# Altium integrated library Renesas Transistor.IntLib: 835 symbols (part 15 of 18)
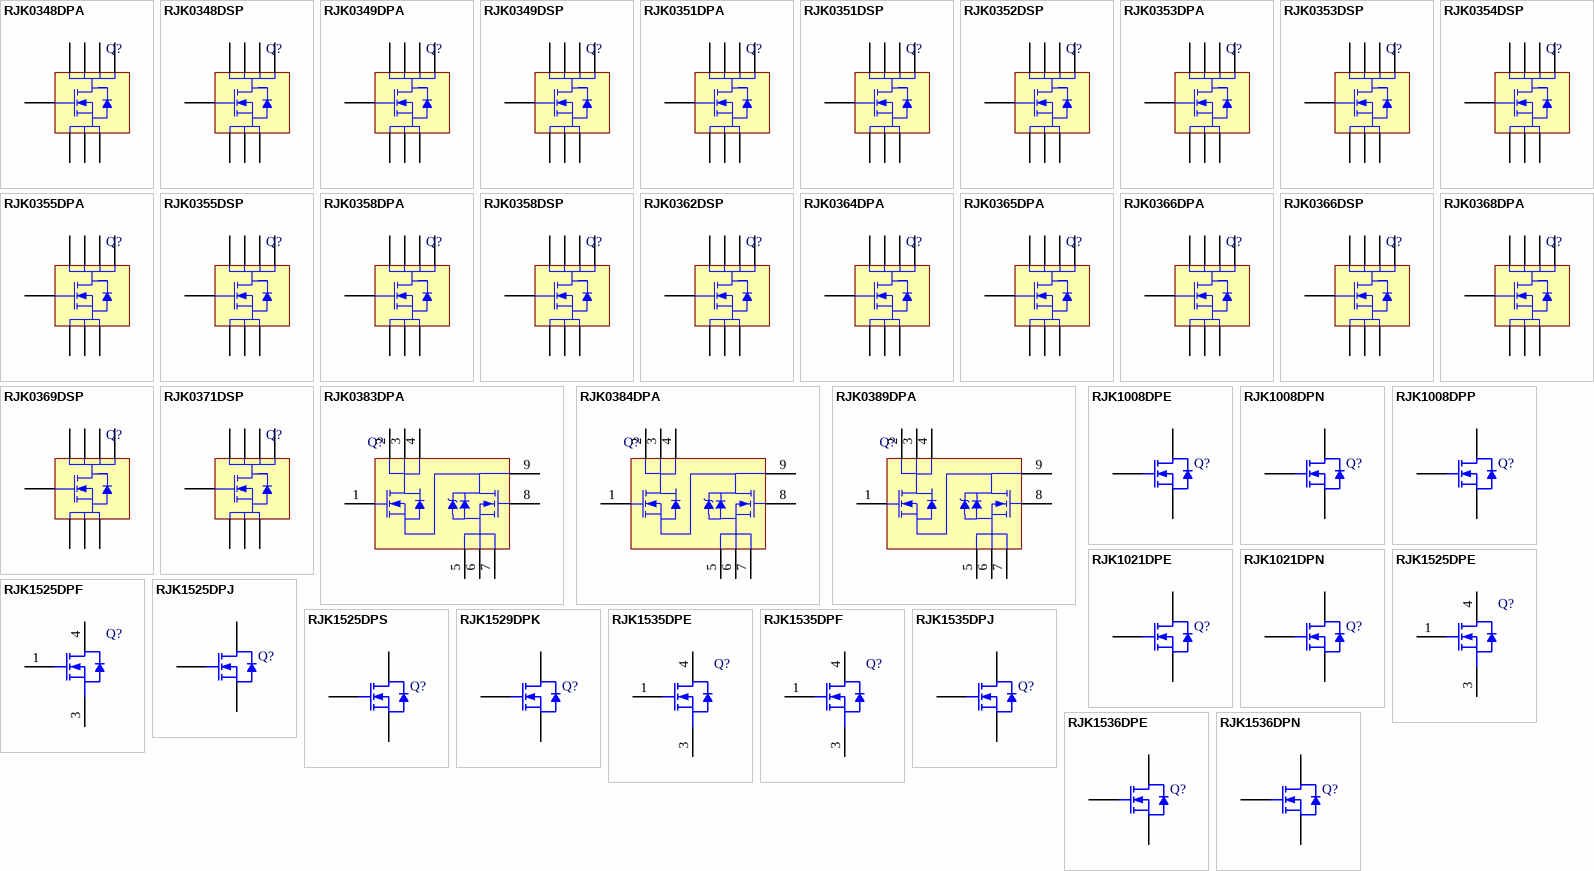
[diagram p36: symbols RJK0348DPA to RJK1536DPN]

## RJK0353DPA
designator Q?
Silicon N-Channel Power MOSFET, Power Switching; Published: 30-Oct-2009; DatasheetVersion: Rev.3.00, Apr-2008; PackageVersion: Feb-2006; PackageReference: PWSN0008DA-A; Publisher: Altium Limited; PackageDescription: 8-Pin Plastic Very-very Thin Small Outline No Lead Package, 5.1 x 6.1 x 0.8mm Body, 1.27mm Pitch (WPAK); ComponentLink1Description: Manufacturer Link; ComponentLink1URL: http://sg.renesas.com/fmwk.jsp?cnt=discrete_category_landing.jsp&fp=/products/discrete/; ComponentLink2Description: Datasheet; ComponentLink2URL: http://documentation.renesas.com/eng/products/transistor/rej03g1647_rjk0353dpads.pdf; ComponentLink3Description: Packaging Specification; ComponentLink3URL: http://sg.renesas.com/media/products/common_info/package/pdf/transistor/code/pwsn0008da_a.pdf
footprint PWSN0008DA-A (SON, 8-Leads, Body 5.1x6.1mm, Pitch 1.27mm, Heatsink)
pins: 1 S, 2 S, 3 S, 4 G, 5 D, 6 D, 7 D, 8 D

## RJK0353DSP
designator Q?
Silicon N-Channel Power MOSFET, Power Switching; Published: 30-Oct-2009; DatasheetVersion: Rev.4.01, Apr-2008; PackageVersion: Sep-2005; PackageReference: PRSP0008DD-D; Publisher: Altium Limited; PackageDescription: 8-Pin Plastic Small Outline Integrated Circuit 1.27 mm Pitch (SOP-8); Code_IPC: SOIC127P600-8; ComponentLink1Description: Manufacturer Link; ComponentLink1URL: http://sg.renesas.com/fmwk.jsp?cnt=discrete_category_landing.jsp&fp=/products/discrete/; ComponentLink2Description: Datasheet; ComponentLink2URL: http://documentation.renesas.com/eng/products/transistor/rej03g1648_rjk0353dspds.pdf; ComponentLink3Description: Packaging Specification; ComponentLink3URL: http://sg.renesas.com/media/products/common_info/package/pdf/transistor/code/prsp0008dd_d.pdf
footprint PRSP0008DD-D_N (SOIC, 8-Leads, Body 4.9x3.95mm, Pitch 1.27mm, IPC Medium Density)
footprint PRSP0008DD-D_L (SOIC, 8-Leads, Body 4.9x3.95mm, Pitch 1.27mm, IPC High Density)
footprint PRSP0008DD-D_M (SOIC, 8-Leads, Body 4.9x3.95mm, Pitch 1.27mm, IPC Low Density)
pins: 1 S, 2 S, 3 S, 4 G, 5 D, 6 D, 7 D, 8 D

## RJK0354DSP
designator Q?
Silicon N-Channel Power MOSFET, Power Switching; Published: 30-Oct-2009; DatasheetVersion: Rev.1.01, Apr-2008; PackageVersion: Sep-2005; PackageReference: PRSP0008DD-D; Publisher: Altium Limited; PackageDescription: 8-Pin Plastic Small Outline Integrated Circuit 1.27 mm Pitch (SOP-8); Code_IPC: SOIC127P600-8; ComponentLink1Description: Manufacturer Link; ComponentLink1URL: http://sg.renesas.com/fmwk.jsp?cnt=discrete_category_landing.jsp&fp=/products/discrete/; ComponentLink2Description: Datasheet; ComponentLink2URL: http://documentation.renesas.com/eng/products/transistor/rej03g1661_rjk0354dspds.pdf; ComponentLink3Description: Packaging Specification; ComponentLink3URL: http://sg.renesas.com/media/products/common_info/package/pdf/transistor/code/prsp0008dd_d.pdf
footprint PRSP0008DD-D_N (SOIC, 8-Leads, Body 4.9x3.95mm, Pitch 1.27mm, IPC Medium Density)
footprint PRSP0008DD-D_L (SOIC, 8-Leads, Body 4.9x3.95mm, Pitch 1.27mm, IPC High Density)
footprint PRSP0008DD-D_M (SOIC, 8-Leads, Body 4.9x3.95mm, Pitch 1.27mm, IPC Low Density)
pins: 1 S, 2 S, 3 S, 4 G, 5 D, 6 D, 7 D, 8 D

## RJK0355DPA
designator Q?
Silicon N-Channel Power MOSFET, Power Switching; Published: 30-Oct-2009; DatasheetVersion: Rev.5.00, Aug-2008; PackageVersion: Feb-2006; PackageReference: PWSN0008DA-A; Publisher: Altium Limited; PackageDescription: 8-Pin Plastic Very-very Thin Small Outline No Lead Package, 5.1 x 6.1 x 0.8mm Body, 1.27mm Pitch (WPAK); ComponentLink1Description: Manufacturer Link; ComponentLink1URL: http://sg.renesas.com/fmwk.jsp?cnt=discrete_category_landing.jsp&fp=/products/discrete/; ComponentLink2Description: Datasheet; ComponentLink2URL: http://documentation.renesas.com/eng/products/transistor/rej03g1649_rjk0355dpads.pdf; ComponentLink3Description: Packaging Specification; ComponentLink3URL: http://sg.renesas.com/media/products/common_info/package/pdf/transistor/code/pwsn0008da_a.pdf
footprint PWSN0008DA-A (SON, 8-Leads, Body 5.1x6.1mm, Pitch 1.27mm, Heatsink)
pins: 1 S, 2 S, 3 S, 4 G, 5 D, 6 D, 7 D, 8 D

## RJK0355DSP
designator Q?
Silicon N-Channel Power MOSFET, Power Switching; Published: 30-Oct-2009; DatasheetVersion: Rev.3.01, Apr-2008; PackageVersion: Sep-2005; PackageReference: PRSP0008DD-D; Publisher: Altium Limited; PackageDescription: 8-Pin Plastic Small Outline Integrated Circuit 1.27 mm Pitch (SOP-8); Code_IPC: SOIC127P600-8; ComponentLink1Description: Manufacturer Link; ComponentLink1URL: http://sg.renesas.com/fmwk.jsp?cnt=discrete_category_landing.jsp&fp=/products/discrete/; ComponentLink2Description: Datasheet; ComponentLink2URL: http://documentation.renesas.com/eng/products/transistor/rej03g1650_rjk0355dspds.pdf; ComponentLink3Description: Packaging Specification; ComponentLink3URL: http://sg.renesas.com/media/products/common_info/package/pdf/transistor/code/prsp0008dd_d.pdf
footprint PRSP0008DD-D_N (SOIC, 8-Leads, Body 4.9x3.95mm, Pitch 1.27mm, IPC Medium Density)
footprint PRSP0008DD-D_L (SOIC, 8-Leads, Body 4.9x3.95mm, Pitch 1.27mm, IPC High Density)
footprint PRSP0008DD-D_M (SOIC, 8-Leads, Body 4.9x3.95mm, Pitch 1.27mm, IPC Low Density)
pins: 1 S, 2 S, 3 S, 4 G, 5 D, 6 D, 7 D, 8 D

## RJK0358DPA
designator Q?
Silicon N-Channel Power MOSFET, Power Switching; Published: 30-Oct-2009; DatasheetVersion: Rev.4.00, Apr-2008; PackageVersion: Feb-2006; PackageReference: PWSN0008DA-A; Publisher: Altium Limited; PackageDescription: 8-Pin Plastic Very-very Thin Small Outline No Lead Package, 5.1 x 6.1 x 0.8mm Body, 1.27mm Pitch (WPAK); ComponentLink1Description: Manufacturer Link; ComponentLink1URL: http://sg.renesas.com/fmwk.jsp?cnt=discrete_category_landing.jsp&fp=/products/discrete/; ComponentLink2Description: Datasheet; ComponentLink2URL: http://documentation.renesas.com/eng/products/transistor/rej03g1651_rjk0358dpads.pdf; ComponentLink3Description: Packaging Specification; ComponentLink3URL: http://sg.renesas.com/media/products/common_info/package/pdf/transistor/code/pwsn0008da_a.pdf
footprint PWSN0008DA-A (SON, 8-Leads, Body 5.1x6.1mm, Pitch 1.27mm, Heatsink)
pins: 1 S, 2 S, 3 S, 4 G, 5 D, 6 D, 7 D, 8 D

## RJK0358DSP
designator Q?
Silicon N-Channel Power MOSFET, Power Switching; Published: 30-Oct-2009; DatasheetVersion: Rev.5.01, Apr-2008; PackageVersion: Sep-2005; PackageReference: PRSP0008DD-A; Publisher: Altium Limited; PackageDescription: 8-Pin Plastic Small Outline Integrated Circuit 1.27 mm Pitch (SOP-8); Code_IPC: SOIC127P600-8; ComponentLink1Description: Manufacturer Link; ComponentLink1URL: http://sg.renesas.com/fmwk.jsp?cnt=discrete_category_landing.jsp&fp=/products/discrete/; ComponentLink2Description: Datasheet; ComponentLink2URL: http://documentation.renesas.com/eng/products/transistor/rej03g1652_rjk0358dspds.pdf; ComponentLink3Description: Packaging Specification; ComponentLink3URL: http://sg.renesas.com/media/products/common_info/package/pdf/transistor/code/prsp0008dd_a.pdf
footprint PRSP0008DD-A_N (SOIC, 8-Leads, Body 4.9x3.95mm, Pitch 1.27mm, IPC Medium Density)
footprint PRSP0008DD-A_L (SOIC, 8-Leads, Body 4.9x3.95mm, Pitch 1.27mm, IPC High Density)
footprint PRSP0008DD-A_M (SOIC, 8-Leads, Body 4.9x3.95mm, Pitch 1.27mm, IPC Low Density)
pins: 1 S, 2 S, 3 S, 4 G, 5 D, 6 D, 7 D, 8 D

## RJK0362DSP
designator Q?
Silicon N-Channel Power MOSFET, Power Switching; Published: 30-Oct-2009; DatasheetVersion: Rev.5.01, Apr-2008; PackageVersion: Sep-2005; PackageReference: PRSP0008DD-A; Publisher: Altium Limited; PackageDescription: 8-Pin Plastic Small Outline Integrated Circuit 1.27 mm Pitch (SOP-8); Code_IPC: SOIC127P600-8; ComponentLink1Description: Manufacturer Link; ComponentLink1URL: http://sg.renesas.com/fmwk.jsp?cnt=discrete_category_landing.jsp&fp=/products/discrete/; ComponentLink2Description: Datasheet; ComponentLink2URL: http://documentation.renesas.com/eng/products/transistor/rej03g1653_rjk0362dspds.pdf; ComponentLink3Description: Packaging Specification; ComponentLink3URL: http://sg.renesas.com/media/products/common_info/package/pdf/transistor/code/prsp0008dd_a.pdf
footprint PRSP0008DD-A_N (SOIC, 8-Leads, Body 4.9x3.95mm, Pitch 1.27mm, IPC Medium Density)
footprint PRSP0008DD-A_L (SOIC, 8-Leads, Body 4.9x3.95mm, Pitch 1.27mm, IPC High Density)
footprint PRSP0008DD-A_M (SOIC, 8-Leads, Body 4.9x3.95mm, Pitch 1.27mm, IPC Low Density)
pins: 1 S, 2 S, 3 S, 4 G, 5 D, 6 D, 7 D, 8 D

## RJK0364DPA
designator Q?
Silicon N-Channel Power MOSFET, Power Switching; Published: 30-Oct-2009; DatasheetVersion: Rev.3.00, Aug-2008; PackageVersion: Feb-2006; PackageReference: PWSN0008DA-A; Publisher: Altium Limited; PackageDescription: 8-Pin Plastic Very-very Thin Small Outline No Lead Package, 5.1 x 6.1 x 0.8mm Body, 1.27mm Pitch (WPAK); ComponentLink1Description: Manufacturer Link; ComponentLink1URL: http://sg.renesas.com/fmwk.jsp?cnt=discrete_category_landing.jsp&fp=/products/discrete/; ComponentLink2Description: Datasheet; ComponentLink2URL: http://documentation.renesas.com/eng/products/transistor/rej03g1654_rjk0364dpads.pdf; ComponentLink3Description: Packaging Specification; ComponentLink3URL: http://sg.renesas.com/media/products/common_info/package/pdf/transistor/code/pwsn0008da_a.pdf
footprint PWSN0008DA-A (SON, 8-Leads, Body 5.1x6.1mm, Pitch 1.27mm, Heatsink)
pins: 1 S, 2 S, 3 S, 4 G, 5 D, 6 D, 7 D, 8 D

## RJK0365DPA
designator Q?
Silicon N-Channel Power MOSFET, Power Switching; Published: 30-Oct-2009; DatasheetVersion: Rev.3.00, Aug-2008; PackageVersion: Feb-2006; PackageReference: PWSN0008DA-A; Publisher: Altium Limited; PackageDescription: 8-Pin Plastic Very-very Thin Small Outline No Lead Package, 5.1 x 6.1 x 0.8mm Body, 1.27mm Pitch (WPAK); ComponentLink1Description: Manufacturer Link; ComponentLink1URL: http://sg.renesas.com/fmwk.jsp?cnt=discrete_category_landing.jsp&fp=/products/discrete/; ComponentLink2Description: Datasheet; ComponentLink2URL: http://documentation.renesas.com/eng/products/transistor/rej03g1655_rjk0365dpads.pdf; ComponentLink3Description: Packaging Specification; ComponentLink3URL: http://sg.renesas.com/media/products/common_info/package/pdf/transistor/code/pwsn0008da_a.pdf
footprint PWSN0008DA-A (SON, 8-Leads, Body 5.1x6.1mm, Pitch 1.27mm, Heatsink)
pins: 1 S, 2 S, 3 S, 4 G, 5 D, 6 D, 7 D, 8 D

## RJK0366DPA
designator Q?
Silicon N-Channel Power MOSFET, Power Switching; Published: 30-Oct-2009; DatasheetVersion: Rev.6.00, Aug-2008; PackageVersion: Feb-2006; PackageReference: PWSN0008DA-A; Publisher: Altium Limited; PackageDescription: 8-Pin Plastic Very-very Thin Small Outline No Lead Package, 5.1 x 6.1 x 0.8mm Body, 1.27mm Pitch (WPAK); ComponentLink1Description: Manufacturer Link; ComponentLink1URL: http://sg.renesas.com/fmwk.jsp?cnt=discrete_category_landing.jsp&fp=/products/discrete/; ComponentLink2Description: Datasheet; ComponentLink2URL: http://documentation.renesas.com/eng/products/transistor/rej03g1656_rjk0366dpads.pdf; ComponentLink3Description: Packaging Specification; ComponentLink3URL: http://sg.renesas.com/media/products/common_info/package/pdf/transistor/code/pwsn0008da_a.pdf
footprint PWSN0008DA-A (SON, 8-Leads, Body 5.1x6.1mm, Pitch 1.27mm, Heatsink)
pins: 1 S, 2 S, 3 S, 4 G, 5 D, 6 D, 7 D, 8 D

## RJK0366DSP
designator Q?
Silicon N-Channel Power MOSFET, Power Switching; Published: 30-Oct-2009; DatasheetVersion: Rev.3.01, Apr-2008; PackageVersion: Sep-2005; PackageReference: PRSP0008DD-D; Publisher: Altium Limited; PackageDescription: 8-Pin Plastic Small Outline Integrated Circuit 1.27 mm Pitch (SOP-8); Code_IPC: SOIC127P600-8; ComponentLink1Description: Manufacturer Link; ComponentLink1URL: http://sg.renesas.com/fmwk.jsp?cnt=discrete_category_landing.jsp&fp=/products/discrete/; ComponentLink2Description: Datasheet; ComponentLink2URL: http://documentation.renesas.com/eng/products/transistor/rej03g1657_rjk0366dspds.pdf; ComponentLink3Description: Packaging Specification; ComponentLink3URL: http://sg.renesas.com/media/products/common_info/package/pdf/transistor/code/prsp0008dd_d.pdf
footprint PRSP0008DD-D_N (SOIC, 8-Leads, Body 4.9x3.95mm, Pitch 1.27mm, IPC Medium Density)
footprint PRSP0008DD-D_L (SOIC, 8-Leads, Body 4.9x3.95mm, Pitch 1.27mm, IPC High Density)
footprint PRSP0008DD-D_M (SOIC, 8-Leads, Body 4.9x3.95mm, Pitch 1.27mm, IPC Low Density)
pins: 1 S, 2 S, 3 S, 4 G, 5 D, 6 D, 7 D, 8 D

## RJK0368DPA
designator Q?
Silicon N-Channel Power MOSFET, Power Switching; Published: 30-Oct-2009; DatasheetVersion: Rev.4.00, Aug-2008; PackageVersion: Feb-2006; PackageReference: PWSN0008DA-A; Publisher: Altium Limited; PackageDescription: 8-Pin Plastic Very-very Thin Small Outline No Lead Package, 5.1 x 6.1 x 0.8mm Body, 1.27mm Pitch (WPAK); ComponentLink1Description: Manufacturer Link; ComponentLink1URL: http://sg.renesas.com/fmwk.jsp?cnt=discrete_category_landing.jsp&fp=/products/discrete/; ComponentLink2Description: Datasheet; ComponentLink2URL: http://documentation.renesas.com/eng/products/transistor/rej03g1658_rjk0368dpads.pdf; ComponentLink3Description: Packaging Specification; ComponentLink3URL: http://sg.renesas.com/media/products/common_info/package/pdf/transistor/code/pwsn0008da_a.pdf
footprint PWSN0008DA-A (SON, 8-Leads, Body 5.1x6.1mm, Pitch 1.27mm, Heatsink)
pins: 1 S, 2 S, 3 S, 4 G, 5 D, 6 D, 7 D, 8 D

## RJK0369DSP
designator Q?
Silicon N-Channel Power MOSFET, Power Switching; Published: 30-Oct-2009; DatasheetVersion: Rev.2.01, Apr-2008; PackageVersion: Sep-2005; PackageReference: PRSP0008DD-D; Publisher: Altium Limited; PackageDescription: 8-Pin Plastic Small Outline Integrated Circuit 1.27 mm Pitch (SOP-8); Code_IPC: SOIC127P600-8; ComponentLink1Description: Manufacturer Link; ComponentLink1URL: http://sg.renesas.com/fmwk.jsp?cnt=discrete_category_landing.jsp&fp=/products/discrete/; ComponentLink2Description: Datasheet; ComponentLink2URL: http://documentation.renesas.com/eng/products/transistor/rej03g1662_rjk0369dspds.pdf; ComponentLink3Description: Packaging Specification; ComponentLink3URL: http://sg.renesas.com/media/products/common_info/package/pdf/transistor/code/prsp0008dd_d.pdf
footprint PRSP0008DD-D_N (SOIC, 8-Leads, Body 4.9x3.95mm, Pitch 1.27mm, IPC Medium Density)
footprint PRSP0008DD-D_L (SOIC, 8-Leads, Body 4.9x3.95mm, Pitch 1.27mm, IPC High Density)
footprint PRSP0008DD-D_M (SOIC, 8-Leads, Body 4.9x3.95mm, Pitch 1.27mm, IPC Low Density)
pins: 1 S, 2 S, 3 S, 4 G, 5 D, 6 D, 7 D, 8 D

## RJK0371DSP
designator Q?
Silicon N-Channel Power MOSFET, Power Switching; Published: 30-Oct-2009; DatasheetVersion: Rev.2.01, Apr-2008; PackageVersion: Sep-2005; PackageReference: PRSP0008DD-A; Publisher: Altium Limited; PackageDescription: 8-Pin Plastic Small Outline Integrated Circuit 1.27 mm Pitch (SOP-8); Code_IPC: SOIC127P600-8; ComponentLink1Description: Manufacturer Link; ComponentLink1URL: http://sg.renesas.com/fmwk.jsp?cnt=discrete_category_landing.jsp&fp=/products/discrete/; ComponentLink2Description: Datasheet; ComponentLink2URL: http://documentation.renesas.com/eng/products/transistor/rej03g1663_rjk0371dspds.pdf; ComponentLink3Description: Packaging Specification; ComponentLink3URL: http://sg.renesas.com/media/products/common_info/package/pdf/transistor/code/prsp0008dd_a.pdf
footprint PRSP0008DD-A_N (SOIC, 8-Leads, Body 4.9x3.95mm, Pitch 1.27mm, IPC Medium Density)
footprint PRSP0008DD-A_L (SOIC, 8-Leads, Body 4.9x3.95mm, Pitch 1.27mm, IPC High Density)
footprint PRSP0008DD-A_M (SOIC, 8-Leads, Body 4.9x3.95mm, Pitch 1.27mm, IPC Low Density)
pins: 1 S, 2 S, 3 S, 4 G, 5 D, 6 D, 7 D, 8 D

## RJK0383DPA
designator Q?
Silicon N-Channel Power MOSFET with Schottky Barrier Diode, High Speed Power Switching; Published: 30-Oct-2009; DatasheetVersion: Rev.3.00, Dec-2008; PackageVersion: 2008; PackageReference: PWSN0008DD-A; Publisher: Altium Limited; PackageDescription: 8-Pin Plastic Very-very Thin Small Outline No Lead Package, 5.1 x 6.1 x 0.8mm Body, 1.27mm Pitch (WPAK-D2); ComponentLink1Description: Manufacturer Link; ComponentLink1URL: http://sg.renesas.com/fmwk.jsp?cnt=discrete_category_landing.jsp&fp=/products/discrete/; ComponentLink2Description: Datasheet; ComponentLink2URL: http://documentation.renesas.com/eng/products/transistor/rej03g1723_rjk0383dpads.pdf; ComponentLink3Description: Packaging Specification; ComponentLink3URL: http://sg.renesas.com/media/products/common_info/package/pdf/transistor/code/pwsn0008dd_a.pdf
footprint PWSN0008DD-A (SON, 8-Leads, Body 5.1x6.1mm, Pitch 1.27mm, Heatsink)
pins: 1 G1, 2 D1, 3 D1, 4 D1, 5 S2, 6 S2, 7 S2, 8 G2, 9 S1/D2

## RJK0384DPA
designator Q?
Silicon N-Channel Power MOSFET with Schottky Barrier Diode, High Speed Power Switching; Published: 30-Oct-2009; DatasheetVersion: Rev.3.00, Dec-2008; PackageVersion: 2008; PackageReference: PWSN0008DD-A; Publisher: Altium Limited; PackageDescription: 8-Pin Plastic Very-very Thin Small Outline No Lead Package, 5.1 x 6.1 x 0.8mm Body, 1.27mm Pitch (WPAK-D2); ComponentLink1Description: Manufacturer Link; ComponentLink1URL: http://sg.renesas.com/fmwk.jsp?cnt=discrete_category_landing.jsp&fp=/products/discrete/; ComponentLink2Description: Datasheet; ComponentLink2URL: http://documentation.renesas.com/eng/products/transistor/rej03g1724_rjk0384dpads.pdf; ComponentLink3Description: Packaging Specification; ComponentLink3URL: http://sg.renesas.com/media/products/common_info/package/pdf/transistor/code/pwsn0008dd_a.pdf
footprint PWSN0008DD-A (SON, 8-Leads, Body 5.1x6.1mm, Pitch 1.27mm, Heatsink)
pins: 1 G1, 2 D1, 3 D1, 4 D1, 5 S2, 6 S2, 7 S2, 8 G2, 9 S1/D2

## RJK0389DPA
designator Q?
Silicon N-Channel Power MOSFET with Schottky Barrier Diode, High Speed Power Switching; Published: 30-Oct-2009; DatasheetVersion: Rev.3.00, Dec-2008; PackageVersion: 2008; PackageReference: PWSN0008DD-A; Publisher: Altium Limited; PackageDescription: 8-Pin Plastic Very-very Thin Small Outline No Lead Package, 5.1 x 6.1 x 0.8mm Body, 1.27mm Pitch (WPAK-D2); ComponentLink1Description: Manufacturer Link; ComponentLink1URL: http://sg.renesas.com/fmwk.jsp?cnt=discrete_category_landing.jsp&fp=/products/discrete/; ComponentLink2Description: Datasheet; ComponentLink2URL: http://documentation.renesas.com/eng/products/transistor/rej03g1722_rjk0389dpads.pdf; ComponentLink3Description: Packaging Specification; ComponentLink3URL: http://sg.renesas.com/media/products/common_info/package/pdf/transistor/code/pwsn0008dd_a.pdf
footprint PWSN0008DD-A (SON, 8-Leads, Body 5.1x6.1mm, Pitch 1.27mm, Heatsink)
pins: 1 G1, 2 D1, 3 D1, 4 D1, 5 S2, 6 S2, 7 S2, 8 G2, 9 S1/D2

## RJK1008DPE
designator Q?
N-Channel Power MOSFET, High-Speed Switching Use; Published: 30-Oct-2009; DatasheetVersion: Rev.1.00, Apr-2008; PackageVersion: Sep-2005; PackageReference: PRSS0004AE-B; Publisher: Altium Limited; PackageDescription: 3-Pin Plastic Transistor Outline Package 8.6 x 10.2 mm Body (LDPAK(S)-(1)); Code_JEITA: SC-83; ComponentLink1Description: Manufacturer Link; ComponentLink1URL: http://sg.renesas.com/fmwk.jsp?cnt=discrete_category_landing.jsp&fp=/products/discrete/; ComponentLink2Description: Datasheet; ComponentLink2URL: http://documentation.renesas.com/eng/products/transistor/rej03g1629_rjk1008dpeds.pdf; ComponentLink3Description: Packaging Specification; ComponentLink3URL: http://sg.renesas.com/media/products/common_info/package/pdf/transistor/code/prss0004ae_b.pdf
footprint PRSS0004AE-B_N (TO, 4-Leads, Body 8.6x10.2mm, Pitch 2.54mm, Lead Span 12.8mm, IPC Medium Density)
footprint PRSS0004AE-B_L (TO, 4-Leads, Body 8.6x10.2mm, Pitch 2.54mm, Lead Span 12.8mm, IPC High Density)
footprint PRSS0004AE-B_M (TO, 4-Leads, Body 8.6x10.2mm, Pitch 2.54mm, Lead Span 12.8mm, IPC Low Density)
pins: 1 G, 3 S, 4 D

## RJK1008DPN
designator Q?
N-Channel Power MOSFET, High-Speed Switching Use; Published: 30-Oct-2009; DatasheetVersion: Rev.1.00, Mar-2008; PackageVersion: Sep-2005; PackageReference: PRSS0004AC-A; Publisher: Altium Limited; PackageDescription: TO, Thru-Hole, Vertical, Heatsink Mounted; 3 In-Line Leads; Pitch 2.54 mm (TO-220AB); Code_JEITA: SC-46; ComponentLink1Description: Manufacturer Link; ComponentLink1URL: http://sg.renesas.com/fmwk.jsp?cnt=discrete_category_landing.jsp&fp=/products/discrete/; ComponentLink2Description: Datasheet; ComponentLink2URL: http://documentation.renesas.com/eng/products/transistor/rej03g1627_rjk1008dpnds.pdf; ComponentLink3Description: Packaging Specification; ComponentLink3URL: http://sg.renesas.com/media/products/common_info/package/pdf/transistor/code/prss0004ac_a.pdf
footprint PRSS0004AC-A (TO, Thru-Hole, Vertical, Heatsink Mounted; 3 In-Line Leads; Pitch 2.54 mm)
pins: 1 G, 2 D, 3 S

## RJK1008DPP
designator Q?
N-Channel Power MOSFET, High-Speed Switching Use; Published: 30-Oct-2009; DatasheetVersion: Rev.1.00, Jul-2008; PackageVersion: Sep-2005; PackageReference: PRSS0003AB-A; Publisher: Altium Limited; PackageDescription: TO, Thru-Hole, Vertical, Heatsink Mounted; 3 In-Line Leads; Pitch 2.54 mm (TO-220FN); ComponentLink1Description: Manufacturer Link; ComponentLink1URL: http://sg.renesas.com/fmwk.jsp?cnt=discrete_category_landing.jsp&fp=/products/discrete/; ComponentLink2Description: Datasheet; ComponentLink2URL: http://documentation.renesas.com/eng/products/transistor/rej03g1708_rjk1008dppds.pdf; ComponentLink3Description: Packaging Specification; ComponentLink3URL: http://sg.renesas.com/media/products/common_info/package/pdf/transistor/code/prss0003ab_a.pdf
footprint PRSS0003AB-A (TO, Thru-Hole, Vertical, Heatsink Mounted; 3 In-Line Leads; Pitch 2.54 mm)
pins: 1 G, 2 D, 3 S

## RJK1021DPE
designator Q?
N-Channel Power MOSFET, High-Speed Switching Use; Published: 30-Oct-2009; DatasheetVersion: Rev.1.00, Apr-2008; PackageVersion: Sep-2005; PackageReference: PRSS0004AE-B; Publisher: Altium Limited; PackageDescription: 3-Pin Plastic Transistor Outline Package 8.6 x 10.2 mm Body (LDPAK(S)-(1)); Code_JEITA: SC-83; ComponentLink1Description: Manufacturer Link; ComponentLink1URL: http://sg.renesas.com/fmwk.jsp?cnt=discrete_category_landing.jsp&fp=/products/discrete/; ComponentLink2Description: Datasheet; ComponentLink2URL: http://documentation.renesas.com/eng/products/transistor/rej03g1630_rjk1021dpeds.pdf; ComponentLink3Description: Packaging Specification; ComponentLink3URL: http://sg.renesas.com/media/products/common_info/package/pdf/transistor/code/prss0004ae_b.pdf
footprint PRSS0004AE-B_N (TO, 4-Leads, Body 8.6x10.2mm, Pitch 2.54mm, Lead Span 12.8mm, IPC Medium Density)
footprint PRSS0004AE-B_L (TO, 4-Leads, Body 8.6x10.2mm, Pitch 2.54mm, Lead Span 12.8mm, IPC High Density)
footprint PRSS0004AE-B_M (TO, 4-Leads, Body 8.6x10.2mm, Pitch 2.54mm, Lead Span 12.8mm, IPC Low Density)
pins: 1 G, 3 S, 4 D

## RJK1021DPN
designator Q?
N-Channel Power MOSFET, High-Speed Switching Use; Published: 30-Oct-2009; DatasheetVersion: Rev.1.00, Apr-2008; PackageVersion: Sep-2005; PackageReference: PRSS0004AC-A; Publisher: Altium Limited; PackageDescription: TO, Thru-Hole, Vertical, Heatsink Mounted; 3 In-Line Leads; Pitch 2.54 mm (TO-220AB); Code_JEITA: SC-46; ComponentLink1Description: Manufacturer Link; ComponentLink1URL: http://sg.renesas.com/fmwk.jsp?cnt=discrete_category_landing.jsp&fp=/products/discrete/; ComponentLink2Description: Datasheet; ComponentLink2URL: http://documentation.renesas.com/eng/products/transistor/rej03g1628_rjk1021dpnds.pdf; ComponentLink3Description: Packaging Specification; ComponentLink3URL: http://sg.renesas.com/media/products/common_info/package/pdf/transistor/code/prss0004ac_a.pdf
footprint PRSS0004AC-A (TO, Thru-Hole, Vertical, Heatsink Mounted; 3 In-Line Leads; Pitch 2.54 mm)
pins: 1 G, 2 D, 3 S

## RJK1525DPE
designator Q?
Silicon N-Channel MOSFET, High Speed Power Switching; Published: 30-Oct-2009; DatasheetVersion: Rev.1.00, Apr-2005; PackageVersion: Sep-2005; PackageReference: PRSS0004AE-B; Publisher: Altium Limited; PackageDescription: 3-Pin Plastic Transistor Outline Package 8.6 x 10.2 mm Body (LDPAK(S)-(1)); Code_JEITA: SC-83; ComponentLink1Description: Manufacturer Link; ComponentLink1URL: http://sg.renesas.com/fmwk.jsp?cnt=discrete_category_landing.jsp&fp=/products/discrete/; ComponentLink2Description: Datasheet; ComponentLink2URL: http://documentation.renesas.com/eng/products/transistor/rej03g0623_rjk1525dpj.pdf; ComponentLink3Description: Packaging Specification; ComponentLink3URL: http://sg.renesas.com/media/products/common_info/package/pdf/transistor/code/prss0004ae_b.pdf
footprint PRSS0004AE-B_N (TO, 4-Leads, Body 8.6x10.2mm, Pitch 2.54mm, Lead Span 12.8mm, IPC Medium Density)
footprint PRSS0004AE-B_L (TO, 4-Leads, Body 8.6x10.2mm, Pitch 2.54mm, Lead Span 12.8mm, IPC High Density)
footprint PRSS0004AE-B_M (TO, 4-Leads, Body 8.6x10.2mm, Pitch 2.54mm, Lead Span 12.8mm, IPC Low Density)
pins: 1 G, 3 S, 4 D

## RJK1525DPF
designator Q?
Silicon N-Channel MOSFET, High Speed Power Switching; Published: 30-Oct-2009; DatasheetVersion: Rev.1.00, Apr-2005; PackageVersion: Sep-2005; PackageReference: PRSS0004AE-C; Publisher: Altium Limited; PackageDescription: 3-Pin Plastic Transistor Outline Package 8.6 x 10.2 mm Body (LDPAK(S)-(2)); ComponentLink1Description: Manufacturer Link; ComponentLink1URL: http://sg.renesas.com/fmwk.jsp?cnt=discrete_category_landing.jsp&fp=/products/discrete/; ComponentLink2Description: Datasheet; ComponentLink2URL: http://documentation.renesas.com/eng/products/transistor/rej03g0623_rjk1525dpj.pdf; ComponentLink3Description: Packaging Specification; ComponentLink3URL: http://sg.renesas.com/media/products/common_info/package/pdf/transistor/code/prss0004ae_c.pdf
footprint PRSS0004AE-C_N (D2-PAK, 4-Leads, Body 8.6x10.2mm, Pitch 2.54mm, Lead Span 15mm, IPC Medium Density)
footprint PRSS0004AE-C_L (D2-PAK, 4-Leads, Body 8.6x10.2mm, Pitch 2.54mm, Lead Span 15mm, IPC High Density)
footprint PRSS0004AE-C_M (D2-PAK, 4-Leads, Body 8.6x10.2mm, Pitch 2.54mm, Lead Span 15mm, IPC Low Density)
pins: 1 G, 3 S, 4 D

## RJK1525DPJ
designator Q?
Silicon N-Channel MOSFET, High Speed Power Switching; Published: 30-Oct-2009; DatasheetVersion: Rev.1.00, Apr-2005; PackageVersion: Sep-2005; PackageReference: PRSS0004AE-A; Publisher: Altium Limited; PackageDescription: TO, Thru-Hole, Vertical, Heatsink Mounted; 3 In-Line Leads; Pitch 2.54 mm (LDPAK(L)); ComponentLink1Description: Manufacturer Link; ComponentLink1URL: http://sg.renesas.com/fmwk.jsp?cnt=discrete_category_landing.jsp&fp=/products/discrete/; ComponentLink2Description: Datasheet; ComponentLink2URL: http://documentation.renesas.com/eng/products/transistor/rej03g0623_rjk1525dpj.pdf; ComponentLink3Description: Packaging Specification; ComponentLink3URL: http://sg.renesas.com/media/products/common_info/package/pdf/transistor/code/prss0004ae_a.pdf
footprint PRSS0004AE-A (TO, Thru-Hole, Vertical, Heatsink Mounted; 3 In-Line Leads; Pitch 2.54 mm)
pins: 1 G, 2 D, 3 S

## RJK1525DPS
designator Q?
Silicon N-Channel MOSFET, High Speed Power Switching; Published: 30-Oct-2009; DatasheetVersion: Rev.2.00, Feb-2007; PackageVersion: Sep-2005; PackageReference: PRSS0003AE-A; Publisher: Altium Limited; PackageDescription: TO, Thru-Hole, Vertical, Heatsink Mounted; 3 In-Line Leads; Pitch 2.54 mm (TO-220FN); ComponentLink1Description: Manufacturer Link; ComponentLink1URL: http://sg.renesas.com/fmwk.jsp?cnt=discrete_category_landing.jsp&fp=/products/discrete/; ComponentLink2Description: Datasheet; ComponentLink2URL: http://documentation.renesas.com/eng/products/transistor/rej03g1314_rjk1525dpsds.pdf; ComponentLink3Description: Packaging Specification; ComponentLink3URL: http://sg.renesas.com/media/products/common_info/package/pdf/transistor/code/prss0003ae_a.pdf
footprint PRSS0003AE-A (TO, Thru-Hole, Vertical, Heatsink Mounted; 3 In-Line Leads; Pitch 2.54 mm)
pins: 1 G, 2 D, 3 S

## RJK1529DPK
designator Q?
Silicon N-Channel MOSFET, High Speed Power Switching; Published: 30-Oct-2009; DatasheetVersion: Rev.2.00, Jun-2005; PackageVersion: Sep-2005; PackageReference: PRSS0004ZE-A; Publisher: Altium Limited; PackageDescription: TO, Thru-Hole, Vertical, Heatsink Mounted; 3 In-Line Leads; Pitch 5.45 mm (TO-3P); Code_JEITA: SC-65; ComponentLink1Description: Manufacturer Link; ComponentLink1URL: http://sg.renesas.com/fmwk.jsp?cnt=discrete_category_landing.jsp&fp=/products/discrete/; ComponentLink2Description: Datasheet; ComponentLink2URL: http://documentation.renesas.com/eng/products/transistor/rej03g0510_rjk1529dpk.pdf; ComponentLink3Description: Packaging Specification; ComponentLink3URL: http://sg.renesas.com/media/products/common_info/package/pdf/transistor/code/prss0004ze_a.pdf
footprint PRSS0004ZE-A (TO, Thru-Hole, Vertical, Heatsink Mounted; 3 In-Line Leads; Pitch 5.45 mm)
pins: 1 G, 2 D, 3 S

## RJK1535DPE
designator Q?
Silicon N-Channel MOSFET, High Speed Power Switching; Published: 30-Oct-2009; DatasheetVersion: Rev.2.00, Jan-2005; PackageVersion: Sep-2005; PackageReference: PRSS0004AE-B; Publisher: Altium Limited; PackageDescription: 3-Pin Plastic Transistor Outline Package 8.6 x 10.2 mm Body (LDPAK(S)-(1)); Code_JEITA: SC-83; ComponentLink1Description: Manufacturer Link; ComponentLink1URL: http://sg.renesas.com/fmwk.jsp?cnt=discrete_category_landing.jsp&fp=/products/discrete/; ComponentLink2Description: Datasheet; ComponentLink2URL: http://documentation.renesas.com/eng/products/transistor/rej03g0479_rjk1535dpj.pdf; ComponentLink3Description: Packaging Specification; ComponentLink3URL: http://sg.renesas.com/media/products/common_info/package/pdf/transistor/code/prss0004ae_b.pdf
footprint PRSS0004AE-B_N (TO, 4-Leads, Body 8.6x10.2mm, Pitch 2.54mm, Lead Span 12.8mm, IPC Medium Density)
footprint PRSS0004AE-B_L (TO, 4-Leads, Body 8.6x10.2mm, Pitch 2.54mm, Lead Span 12.8mm, IPC High Density)
footprint PRSS0004AE-B_M (TO, 4-Leads, Body 8.6x10.2mm, Pitch 2.54mm, Lead Span 12.8mm, IPC Low Density)
pins: 1 G, 3 S, 4 D

## RJK1535DPF
designator Q?
Silicon N-Channel MOSFET, High Speed Power Switching; Published: 30-Oct-2009; DatasheetVersion: Rev.2.00, Jan-2005; PackageVersion: Sep-2005; PackageReference: PRSS0004AE-C; Publisher: Altium Limited; PackageDescription: 3-Pin Plastic Transistor Outline Package 8.6 x 10.2 mm Body (LDPAK(S)-(2)); ComponentLink1Description: Manufacturer Link; ComponentLink1URL: http://sg.renesas.com/fmwk.jsp?cnt=discrete_category_landing.jsp&fp=/products/discrete/; ComponentLink2Description: Datasheet; ComponentLink2URL: http://documentation.renesas.com/eng/products/transistor/rej03g0479_rjk1535dpj.pdf; ComponentLink3Description: Packaging Specification; ComponentLink3URL: http://sg.renesas.com/media/products/common_info/package/pdf/transistor/code/prss0004ae_c.pdf
footprint PRSS0004AE-C_N (D2-PAK, 4-Leads, Body 8.6x10.2mm, Pitch 2.54mm, Lead Span 15mm, IPC Medium Density)
footprint PRSS0004AE-C_L (D2-PAK, 4-Leads, Body 8.6x10.2mm, Pitch 2.54mm, Lead Span 15mm, IPC High Density)
footprint PRSS0004AE-C_M (D2-PAK, 4-Leads, Body 8.6x10.2mm, Pitch 2.54mm, Lead Span 15mm, IPC Low Density)
pins: 1 G, 3 S, 4 D

## RJK1535DPJ
designator Q?
Silicon N-Channel MOSFET, High Speed Power Switching; Published: 30-Oct-2009; DatasheetVersion: Rev.2.00, Jan-2005; PackageVersion: Sep-2005; PackageReference: PRSS0004AE-A; Publisher: Altium Limited; PackageDescription: TO, Thru-Hole, Vertical, Heatsink Mounted; 3 In-Line Leads; Pitch 2.54 mm (LDPAK(L)); ComponentLink1Description: Manufacturer Link; ComponentLink1URL: http://sg.renesas.com/fmwk.jsp?cnt=discrete_category_landing.jsp&fp=/products/discrete/; ComponentLink2Description: Datasheet; ComponentLink2URL: http://documentation.renesas.com/eng/products/transistor/rej03g0479_rjk1535dpj.pdf; ComponentLink3Description: Packaging Specification; ComponentLink3URL: http://sg.renesas.com/media/products/common_info/package/pdf/transistor/code/prss0004ae_a.pdf
footprint PRSS0004AE-A (TO, Thru-Hole, Vertical, Heatsink Mounted; 3 In-Line Leads; Pitch 2.54 mm)
pins: 1 G, 2 D, 3 S

## RJK1536DPE
designator Q?
N-Channel Power MOSFET, High-Speed Switching Use; Published: 30-Oct-2009; DatasheetVersion: Rev.2.00, Mar-2008; PackageVersion: Sep-2005; PackageReference: PRSS0004AE-B; Publisher: Altium Limited; PackageDescription: 3-Pin Plastic Transistor Outline Package 8.6 x 10.2 mm Body (LDPAK(S)-(1)); Code_JEITA: SC-83; ComponentLink1Description: Manufacturer Link; ComponentLink1URL: http://sg.renesas.com/fmwk.jsp?cnt=discrete_category_landing.jsp&fp=/products/discrete/; ComponentLink2Description: Datasheet; ComponentLink2URL: http://documentation.renesas.com/eng/products/transistor/rej03g1612_rjk1536dpeds.pdf; ComponentLink3Description: Packaging Specification; ComponentLink3URL: http://sg.renesas.com/media/products/common_info/package/pdf/transistor/code/prss0004ae_b.pdf
footprint PRSS0004AE-B_N (TO, 4-Leads, Body 8.6x10.2mm, Pitch 2.54mm, Lead Span 12.8mm, IPC Medium Density)
footprint PRSS0004AE-B_L (TO, 4-Leads, Body 8.6x10.2mm, Pitch 2.54mm, Lead Span 12.8mm, IPC High Density)
footprint PRSS0004AE-B_M (TO, 4-Leads, Body 8.6x10.2mm, Pitch 2.54mm, Lead Span 12.8mm, IPC Low Density)
pins: 1 G, 3 S, 4 D

## RJK1536DPN
designator Q?
N-Channel Power MOSFET, High-Speed Switching Use; Published: 30-Oct-2009; DatasheetVersion: Rev.2.00, Mar-2008; PackageVersion: Sep-2005; PackageReference: PRSS0004AC-A; Publisher: Altium Limited; PackageDescription: TO, Thru-Hole, Vertical, Heatsink Mounted; 3 In-Line Leads; Pitch 2.54 mm (TO-220AB); Code_JEITA: SC-46; ComponentLink1Description: Manufacturer Link; ComponentLink1URL: http://sg.renesas.com/fmwk.jsp?cnt=discrete_category_landing.jsp&fp=/products/discrete/; ComponentLink2Description: Datasheet; ComponentLink2URL: http://documentation.renesas.com/eng/products/transistor/rej03g1594_rjk1536dpnds.pdf; ComponentLink3Description: Packaging Specification; ComponentLink3URL: http://sg.renesas.com/media/products/common_info/package/pdf/transistor/code/prss0004ac_a.pdf
footprint PRSS0004AC-A (TO, Thru-Hole, Vertical, Heatsink Mounted; 3 In-Line Leads; Pitch 2.54 mm)
pins: 1 G, 2 D, 3 S

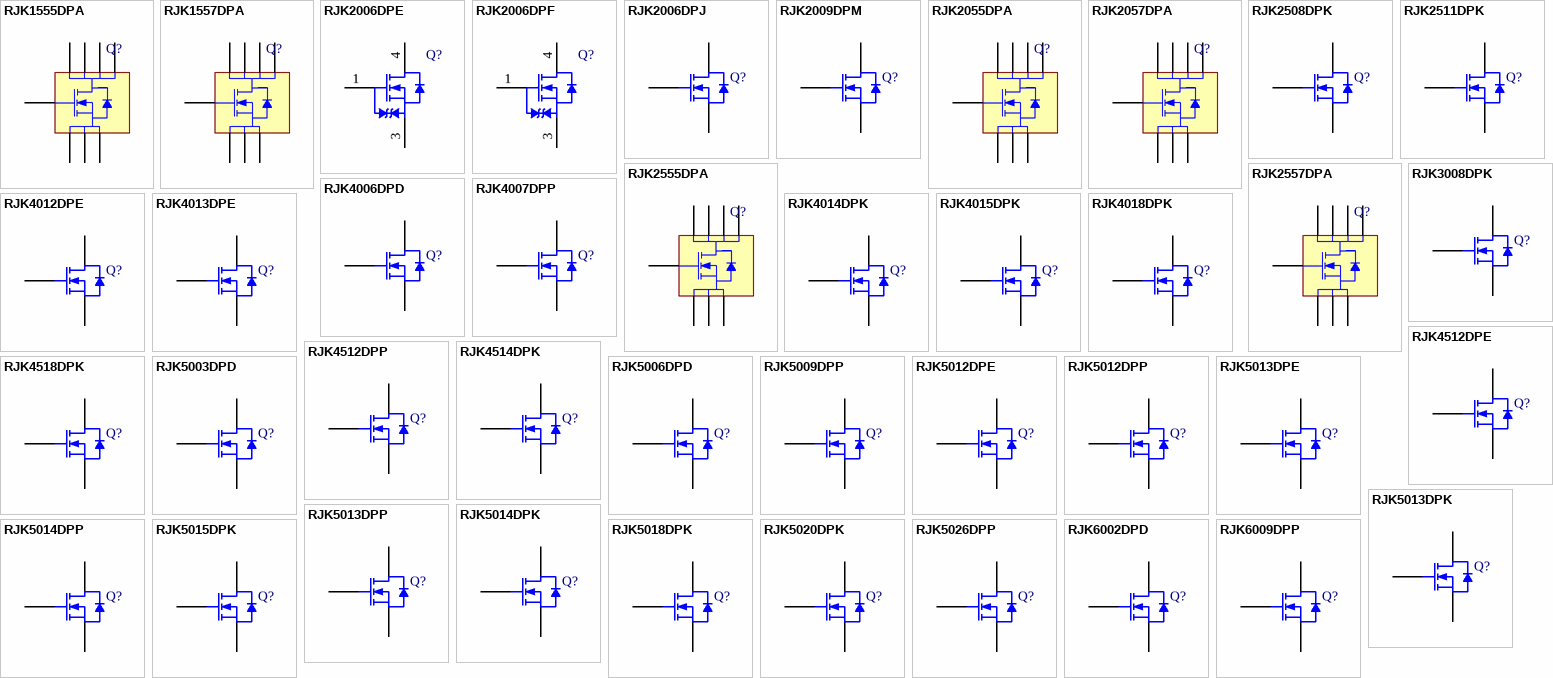
[diagram p19: symbols RJK1555DPA to RJK6009DPP]

## RJK1555DPA
designator Q?
Silicon N-Channel MOSFET, High Speed Power Switching; Published: 30-Oct-2009; DatasheetVersion: Rev.2.00, May-2009; PackageVersion: Feb-2006; PackageReference: PWSN0008DA-A; Publisher: Altium Limited; PackageDescription: 8-Pin Plastic Very-very Thin Small Outline No Lead Package, 5.1 x 6.1 x 0.8mm Body, 1.27mm Pitch (WPAK); ComponentLink1Description: Manufacturer Link; ComponentLink1URL: http://sg.renesas.com/fmwk.jsp?cnt=discrete_category_landing.jsp&fp=/products/discrete/; ComponentLink2Description: Datasheet; ComponentLink2URL: http://documentation.renesas.com/eng/products/transistor/rej03g1783_rjk1555dpads.pdf; ComponentLink3Description: Packaging Specification; ComponentLink3URL: http://sg.renesas.com/media/products/common_info/package/pdf/transistor/code/pwsn0008da_a.pdf
footprint PWSN0008DA-A (SON, 8-Leads, Body 5.1x6.1mm, Pitch 1.27mm, Heatsink)
pins: 1 S, 2 S, 3 S, 4 G, 5 D, 6 D, 7 D, 8 D

## RJK1557DPA
designator Q?
Silicon N-Channel MOSFET, High Speed Power Switching; Published: 30-Oct-2009; DatasheetVersion: Rev.1.00, Nov-2008; PackageVersion: Feb-2006; PackageReference: PWSN0008DA-A; Publisher: Altium Limited; PackageDescription: 8-Pin Plastic Very-very Thin Small Outline No Lead Package, 5.1 x 6.1 x 0.8mm Body, 1.27mm Pitch (WPAK); ComponentLink1Description: Manufacturer Link; ComponentLink1URL: http://sg.renesas.com/fmwk.jsp?cnt=discrete_category_landing.jsp&fp=/products/discrete/; ComponentLink2Description: Datasheet; ComponentLink2URL: http://documentation.renesas.com/eng/products/transistor/rej03g1759_rjk1557dpads.pdf; ComponentLink3Description: Packaging Specification; ComponentLink3URL: http://sg.renesas.com/media/products/common_info/package/pdf/transistor/code/pwsn0008da_a.pdf
footprint PWSN0008DA-A (SON, 8-Leads, Body 5.1x6.1mm, Pitch 1.27mm, Heatsink)
pins: 1 S, 2 S, 3 S, 4 G, 5 D, 6 D, 7 D, 8 D

## RJK2006DPE
designator Q?
Silicon N-Channel MOSFET, High Speed Power Switching; Published: 30-Oct-2009; DatasheetVersion: Rev.1.00, Jan-2005; PackageVersion: Sep-2005; PackageReference: PRSS0004AE-B; Publisher: Altium Limited; PackageDescription: 3-Pin Plastic Transistor Outline Package 8.6 x 10.2 mm Body (LDPAK(S)-(1)); Code_JEITA: SC-83; ComponentLink1Description: Manufacturer Link; ComponentLink1URL: http://sg.renesas.com/fmwk.jsp?cnt=discrete_category_landing.jsp&fp=/products/discrete/; ComponentLink2Description: Datasheet; ComponentLink2URL: http://documentation.renesas.com/eng/products/transistor/rej03g0512_rjk2006dpj.pdf; ComponentLink3Description: Packaging Specification; ComponentLink3URL: http://sg.renesas.com/media/products/common_info/package/pdf/transistor/code/prss0004ae_b.pdf
footprint PRSS0004AE-B_N (TO, 4-Leads, Body 8.6x10.2mm, Pitch 2.54mm, Lead Span 12.8mm, IPC Medium Density)
footprint PRSS0004AE-B_L (TO, 4-Leads, Body 8.6x10.2mm, Pitch 2.54mm, Lead Span 12.8mm, IPC High Density)
footprint PRSS0004AE-B_M (TO, 4-Leads, Body 8.6x10.2mm, Pitch 2.54mm, Lead Span 12.8mm, IPC Low Density)
pins: 1 G, 3 S, 4 D

## RJK2006DPF
designator Q?
Silicon N-Channel MOSFET, High Speed Power Switching; Published: 30-Oct-2009; DatasheetVersion: Rev.1.00, Jan-2005; PackageVersion: Sep-2005; PackageReference: PRSS0004AE-C; Publisher: Altium Limited; PackageDescription: 3-Pin Plastic Transistor Outline Package 8.6 x 10.2 mm Body (LDPAK(S)-(2)); ComponentLink1Description: Manufacturer Link; ComponentLink1URL: http://sg.renesas.com/fmwk.jsp?cnt=discrete_category_landing.jsp&fp=/products/discrete/; ComponentLink2Description: Datasheet; ComponentLink2URL: http://documentation.renesas.com/eng/products/transistor/rej03g0512_rjk2006dpj.pdf; ComponentLink3Description: Packaging Specification; ComponentLink3URL: http://sg.renesas.com/media/products/common_info/package/pdf/transistor/code/prss0004ae_c.pdf
footprint PRSS0004AE-C_N (D2-PAK, 4-Leads, Body 8.6x10.2mm, Pitch 2.54mm, Lead Span 15mm, IPC Medium Density)
footprint PRSS0004AE-C_L (D2-PAK, 4-Leads, Body 8.6x10.2mm, Pitch 2.54mm, Lead Span 15mm, IPC High Density)
footprint PRSS0004AE-C_M (D2-PAK, 4-Leads, Body 8.6x10.2mm, Pitch 2.54mm, Lead Span 15mm, IPC Low Density)
pins: 1 G, 3 S, 4 D

## RJK2006DPJ
designator Q?
Silicon N-Channel MOSFET, High Speed Power Switching; Published: 30-Oct-2009; DatasheetVersion: Rev.1.00, Jan-2005; PackageVersion: Sep-2005; PackageReference: PRSS0004AE-A; Publisher: Altium Limited; PackageDescription: TO, Thru-Hole, Vertical, Heatsink Mounted; 3 In-Line Leads; Pitch 2.54 mm (LDPAK(L)); ComponentLink1Description: Manufacturer Link; ComponentLink1URL: http://sg.renesas.com/fmwk.jsp?cnt=discrete_category_landing.jsp&fp=/products/discrete/; ComponentLink2Description: Datasheet; ComponentLink2URL: http://documentation.renesas.com/eng/products/transistor/rej03g0512_rjk2006dpj.pdf; ComponentLink3Description: Packaging Specification; ComponentLink3URL: http://sg.renesas.com/media/products/common_info/package/pdf/transistor/code/prss0004ae_a.pdf
footprint PRSS0004AE-A (TO, Thru-Hole, Vertical, Heatsink Mounted; 3 In-Line Leads; Pitch 2.54 mm)
pins: 1 G, 2 D, 3 S

## RJK2009DPM
designator Q?
Silicon N-Channel MOSFET, High Speed Power Switching; Published: 30-Oct-2009; DatasheetVersion: Rev.2.00, Aug-2005; PackageVersion: Sep-2005; PackageReference: PRSS0003ZA-A; Publisher: Altium Limited; PackageDescription: SIP with Mounting Hole; 3 Leads; Body 19.9 x 15.6 x 5.5 mm (typ); Pitch 5.45 mm (TO-3PFM); Code_JEITA: SC-93; ComponentLink1Description: Manufacturer Link; ComponentLink1URL: http://sg.renesas.com/fmwk.jsp?cnt=discrete_category_landing.jsp&fp=/products/discrete/; ComponentLink2Description: Datasheet; ComponentLink2URL: http://documentation.renesas.com/eng/products/transistor/rej03g0474_rjk2009dpm.pdf; ComponentLink3Description: Packaging Specification; ComponentLink3URL: http://sg.renesas.com/media/products/common_info/package/pdf/transistor/code/prss0003za_a.pdf
footprint PRSS0003ZA-A (SIP with Mounting Hole; 3 Leads; Body 19.9 x 15.6 x 5.5 mm (typ); Pitch 5.45 mm)
pins: 1 G, 2 D, 3 S

## RJK2055DPA
designator Q?
Silicon N-Channel MOSFET, High Speed Power Switching; Published: 30-Oct-2009; DatasheetVersion: Rev.2.00, Dec-2008; PackageVersion: Feb-2006; PackageReference: PWSN0008DA-A; Publisher: Altium Limited; PackageDescription: 8-Pin Plastic Very-very Thin Small Outline No Lead Package, 5.1 x 6.1 x 0.8mm Body, 1.27mm Pitch (WPAK); ComponentLink1Description: Manufacturer Link; ComponentLink1URL: http://sg.renesas.com/fmwk.jsp?cnt=discrete_category_landing.jsp&fp=/products/discrete/; ComponentLink2Description: Datasheet; ComponentLink2URL: http://documentation.renesas.com/eng/products/transistor/rej03g1735_rjk2055dpads.pdf; ComponentLink3Description: Packaging Specification; ComponentLink3URL: http://sg.renesas.com/media/products/common_info/package/pdf/transistor/code/pwsn0008da_a.pdf
footprint PWSN0008DA-A (SON, 8-Leads, Body 5.1x6.1mm, Pitch 1.27mm, Heatsink)
pins: 1 S, 2 S, 3 S, 4 G, 5 D, 6 D, 7 D, 8 D

## RJK2057DPA
designator Q?
Silicon N-Channel MOSFET, High Speed Power Switching; Published: 30-Oct-2009; DatasheetVersion: Rev.3.00, Apr-2009; PackageVersion: Feb-2006; PackageReference: PWSN0008DA-A; Publisher: Altium Limited; PackageDescription: 8-Pin Plastic Very-very Thin Small Outline No Lead Package, 5.1 x 6.1 x 0.8mm Body, 1.27mm Pitch (WPAK); ComponentLink1Description: Manufacturer Link; ComponentLink1URL: http://sg.renesas.com/fmwk.jsp?cnt=discrete_category_landing.jsp&fp=/products/discrete/; ComponentLink2Description: Datasheet; ComponentLink2URL: http://documentation.renesas.com/eng/products/transistor/rej03g1761_rjk2057dpads.pdf; ComponentLink3Description: Packaging Specification; ComponentLink3URL: http://sg.renesas.com/media/products/common_info/package/pdf/transistor/code/pwsn0008da_a.pdf
footprint PWSN0008DA-A (SON, 8-Leads, Body 5.1x6.1mm, Pitch 1.27mm, Heatsink)
pins: 1 S, 2 S, 3 S, 4 G, 5 D, 6 D, 7 D, 8 D

## RJK2508DPK
designator Q?
Silicon N-Channel MOSFET, High Speed Power Switching; Published: 30-Oct-2009; DatasheetVersion: Rev.2.00, Feb-2005; PackageVersion: Sep-2005; PackageReference: PRSS0004ZE-A; Publisher: Altium Limited; PackageDescription: TO, Thru-Hole, Vertical, Heatsink Mounted; 3 In-Line Leads; Pitch 5.45 mm (TO-3P); Code_JEITA: SC-65; ComponentLink1Description: Manufacturer Link; ComponentLink1URL: http://sg.renesas.com/fmwk.jsp?cnt=discrete_category_landing.jsp&fp=/products/discrete/; ComponentLink2Description: Datasheet; ComponentLink2URL: http://documentation.renesas.com/eng/products/transistor/rej03g0508_rjk2508dpk.pdf; ComponentLink3Description: Packaging Specification; ComponentLink3URL: http://sg.renesas.com/media/products/common_info/package/pdf/transistor/code/prss0004ze_a.pdf
footprint PRSS0004ZE-A (TO, Thru-Hole, Vertical, Heatsink Mounted; 3 In-Line Leads; Pitch 5.45 mm)
pins: 1 G, 2 D, 3 S

## RJK2511DPK
designator Q?
Silicon N-Channel MOSFET, High Speed Power Switching; Published: 30-Oct-2009; DatasheetVersion: Rev.4.00, Nov-2007; PackageVersion: Sep-2005; PackageReference: PRSS0004ZE-A; Publisher: Altium Limited; PackageDescription: TO, Thru-Hole, Vertical, Heatsink Mounted; 3 In-Line Leads; Pitch 5.45 mm (TO-3P); Code_JEITA: SC-65; ComponentLink1Description: Manufacturer Link; ComponentLink1URL: http://sg.renesas.com/fmwk.jsp?cnt=discrete_category_landing.jsp&fp=/products/discrete/; ComponentLink2Description: Datasheet; ComponentLink2URL: http://documentation.renesas.com/eng/products/transistor/rej03g1486_rjk2511dpkds.pdf; ComponentLink3Description: Packaging Specification; ComponentLink3URL: http://sg.renesas.com/media/products/common_info/package/pdf/transistor/code/prss0004ze_a.pdf
footprint PRSS0004ZE-A (TO, Thru-Hole, Vertical, Heatsink Mounted; 3 In-Line Leads; Pitch 5.45 mm)
pins: 1 G, 2 D, 3 S

## RJK2555DPA
designator Q?
Silicon N-Channel MOSFET, High Speed Power Switching; Published: 30-Oct-2009; DatasheetVersion: Rev.2.00, Apr-2009; PackageVersion: Feb-2006; PackageReference: PWSN0008DA-A; Publisher: Altium Limited; PackageDescription: 8-Pin Plastic Very-very Thin Small Outline No Lead Package, 5.1 x 6.1 x 0.8mm Body, 1.27mm Pitch (WPAK); ComponentLink1Description: Manufacturer Link; ComponentLink1URL: http://sg.renesas.com/fmwk.jsp?cnt=discrete_category_landing.jsp&fp=/products/discrete/; ComponentLink2Description: Datasheet; ComponentLink2URL: http://documentation.renesas.com/eng/products/transistor/rej03g1776_rjk2555dpads.pdf; ComponentLink3Description: Packaging Specification; ComponentLink3URL: http://sg.renesas.com/media/products/common_info/package/pdf/transistor/code/pwsn0008da_a.pdf
footprint PWSN0008DA-A (SON, 8-Leads, Body 5.1x6.1mm, Pitch 1.27mm, Heatsink)
pins: 1 S, 2 S, 3 S, 4 G, 5 D, 6 D, 7 D, 8 D

## RJK2557DPA
designator Q?
Silicon N-Channel MOSFET, High Speed Power Switching; Published: 30-Oct-2009; DatasheetVersion: Rev.2.00, Apr-2009; PackageVersion: Feb-2006; PackageReference: PWSN0008DA-A; Publisher: Altium Limited; PackageDescription: 8-Pin Plastic Very-very Thin Small Outline No Lead Package, 5.1 x 6.1 x 0.8mm Body, 1.27mm Pitch (WPAK); ComponentLink1Description: Manufacturer Link; ComponentLink1URL: http://sg.renesas.com/fmwk.jsp?cnt=discrete_category_landing.jsp&fp=/products/discrete/; ComponentLink2Description: Datasheet; ComponentLink2URL: http://documentation.renesas.com/eng/products/transistor/rej03g1777_rjk2557dpads.pdf; ComponentLink3Description: Packaging Specification; ComponentLink3URL: http://sg.renesas.com/media/products/common_info/package/pdf/transistor/code/pwsn0008da_a.pdf
footprint PWSN0008DA-A (SON, 8-Leads, Body 5.1x6.1mm, Pitch 1.27mm, Heatsink)
pins: 1 S, 2 S, 3 S, 4 G, 5 D, 6 D, 7 D, 8 D

## RJK3008DPK
designator Q?
Silicon N-Channel MOSFET, High Speed Power Switching; Published: 30-Oct-2009; DatasheetVersion: Rev.1.00, Sep-2007; PackageVersion: Sep-2005; PackageReference: PRSS0004ZE-A; Publisher: Altium Limited; PackageDescription: TO, Thru-Hole, Vertical, Heatsink Mounted; 3 In-Line Leads; Pitch 5.45 mm (TO-3P); Code_JEITA: SC-65; ComponentLink1Description: Manufacturer Link; ComponentLink1URL: http://sg.renesas.com/fmwk.jsp?cnt=discrete_category_landing.jsp&fp=/products/discrete/; ComponentLink2Description: Datasheet; ComponentLink2URL: http://documentation.renesas.com/eng/products/transistor/rej03g1587_rjk3008dpkds.pdf; ComponentLink3Description: Packaging Specification; ComponentLink3URL: http://sg.renesas.com/media/products/common_info/package/pdf/transistor/code/prss0004ze_a.pdf
footprint PRSS0004ZE-A (TO, Thru-Hole, Vertical, Heatsink Mounted; 3 In-Line Leads; Pitch 5.45 mm)
pins: 1 G, 2 D, 3 S

## RJK4006DPD
designator Q?
Silicon N-Channel MOSFET, High Speed Power Switching; Published: 30-Oct-2009; DatasheetVersion: Rev.1.00, Dec-2008; PackageVersion: Dec-2008; PackageReference: PRSS0004ZG-A; Publisher: Altium Limited; PackageDescription: 3-Pin Plastic Transistor Outline Package, 6.1 x 6.6 mm Body (MP-3A); Code_JEITA: SC-63; ComponentLink1Description: Manufacturer Link; ComponentLink1URL: http://sg.renesas.com/fmwk.jsp?cnt=discrete_category_landing.jsp&fp=/products/discrete/; ComponentLink2Description: Datasheet; ComponentLink2URL: http://documentation.renesas.com/eng/products/transistor/rej03g1547_rjk4006dpdds.pdf; ComponentLink3Description: Packaging Specification; ComponentLink3URL: http://sg.renesas.com/media/products/common_info/package/pdf/transistor/code/prss0004zg_a.pdf
footprint PRSS0004ZG-A_N (D-PAK, 4-Leads, Body 6.1x6.6mm, Pitch 2.28mm, Lead Span 9.9mm, IPC Medium Density)
footprint PRSS0004ZG-A_L (D-PAK, 4-Leads, Body 6.1x6.6mm, Pitch 2.28mm, Lead Span 9.9mm, IPC High Density)
footprint PRSS0004ZG-A_M (D-PAK, 4-Leads, Body 6.1x6.6mm, Pitch 2.28mm, Lead Span 9.9mm, IPC Low Density)
pins: 1 G, 3 S, 4 D

## RJK4007DPP
designator Q?
Silicon N-Channel MOSFET, High Speed Power Switching; Published: 30-Oct-2009; DatasheetVersion: Rev.2.00, Jan-2009; PackageVersion: Sep-2005; PackageReference: PRSS0003AB-A; Publisher: Altium Limited; PackageDescription: TO, Thru-Hole, Vertical, Heatsink Mounted; 3 In-Line Leads; Pitch 2.54 mm (TO-220FN); ComponentLink1Description: Manufacturer Link; ComponentLink1URL: http://sg.renesas.com/fmwk.jsp?cnt=discrete_category_landing.jsp&fp=/products/discrete/; ComponentLink2Description: Datasheet; ComponentLink2URL: http://documentation.renesas.com/eng/products/transistor/rej03g0581_rjk4007dpp.pdf; ComponentLink3Description: Packaging Specification; ComponentLink3URL: http://sg.renesas.com/media/products/common_info/package/pdf/transistor/code/prss0003ab_a.pdf
footprint PRSS0003AB-A (TO, Thru-Hole, Vertical, Heatsink Mounted; 3 In-Line Leads; Pitch 2.54 mm)
pins: 1 G, 2 D, 3 S

## RJK4012DPE
designator Q?
Silicon N-Channel MOSFET, High Speed Power Switching; Published: 30-Oct-2009; DatasheetVersion: Rev.1.00, Aug-2007; PackageVersion: Sep-2005; PackageReference: PRSS0004AE-B; Publisher: Altium Limited; PackageDescription: 3-Pin Plastic Transistor Outline Package 8.6 x 10.2 mm Body (LDPAK(S)-(1)); Code_JEITA: SC-83; ComponentLink1Description: Manufacturer Link; ComponentLink1URL: http://sg.renesas.com/fmwk.jsp?cnt=discrete_category_landing.jsp&fp=/products/discrete/; ComponentLink2Description: Datasheet; ComponentLink2URL: http://documentation.renesas.com/eng/products/transistor/rej03g1575_rjk4012dpeds.pdf; ComponentLink3Description: Packaging Specification; ComponentLink3URL: http://sg.renesas.com/media/products/common_info/package/pdf/transistor/code/prss0004ae_b.pdf
footprint PRSS0004AE-B_N (TO, 4-Leads, Body 8.6x10.2mm, Pitch 2.54mm, Lead Span 12.8mm, IPC Medium Density)
footprint PRSS0004AE-B_L (TO, 4-Leads, Body 8.6x10.2mm, Pitch 2.54mm, Lead Span 12.8mm, IPC High Density)
footprint PRSS0004AE-B_M (TO, 4-Leads, Body 8.6x10.2mm, Pitch 2.54mm, Lead Span 12.8mm, IPC Low Density)
pins: 1 G, 3 S, 4 D